# Altium footprint library Custom.PcbLib: 446 footprints (part 2 of 28)
Each footprint in its own frame and in the unit in brackets; x right, y up, seen from the top. Pads: shape width x height; smd on the part's side, far side on the other; paste and mask are expansions set on the pad; w line width, h text height; cw(c..) or ccw(c..) is an arc to the next point about the centre after c.
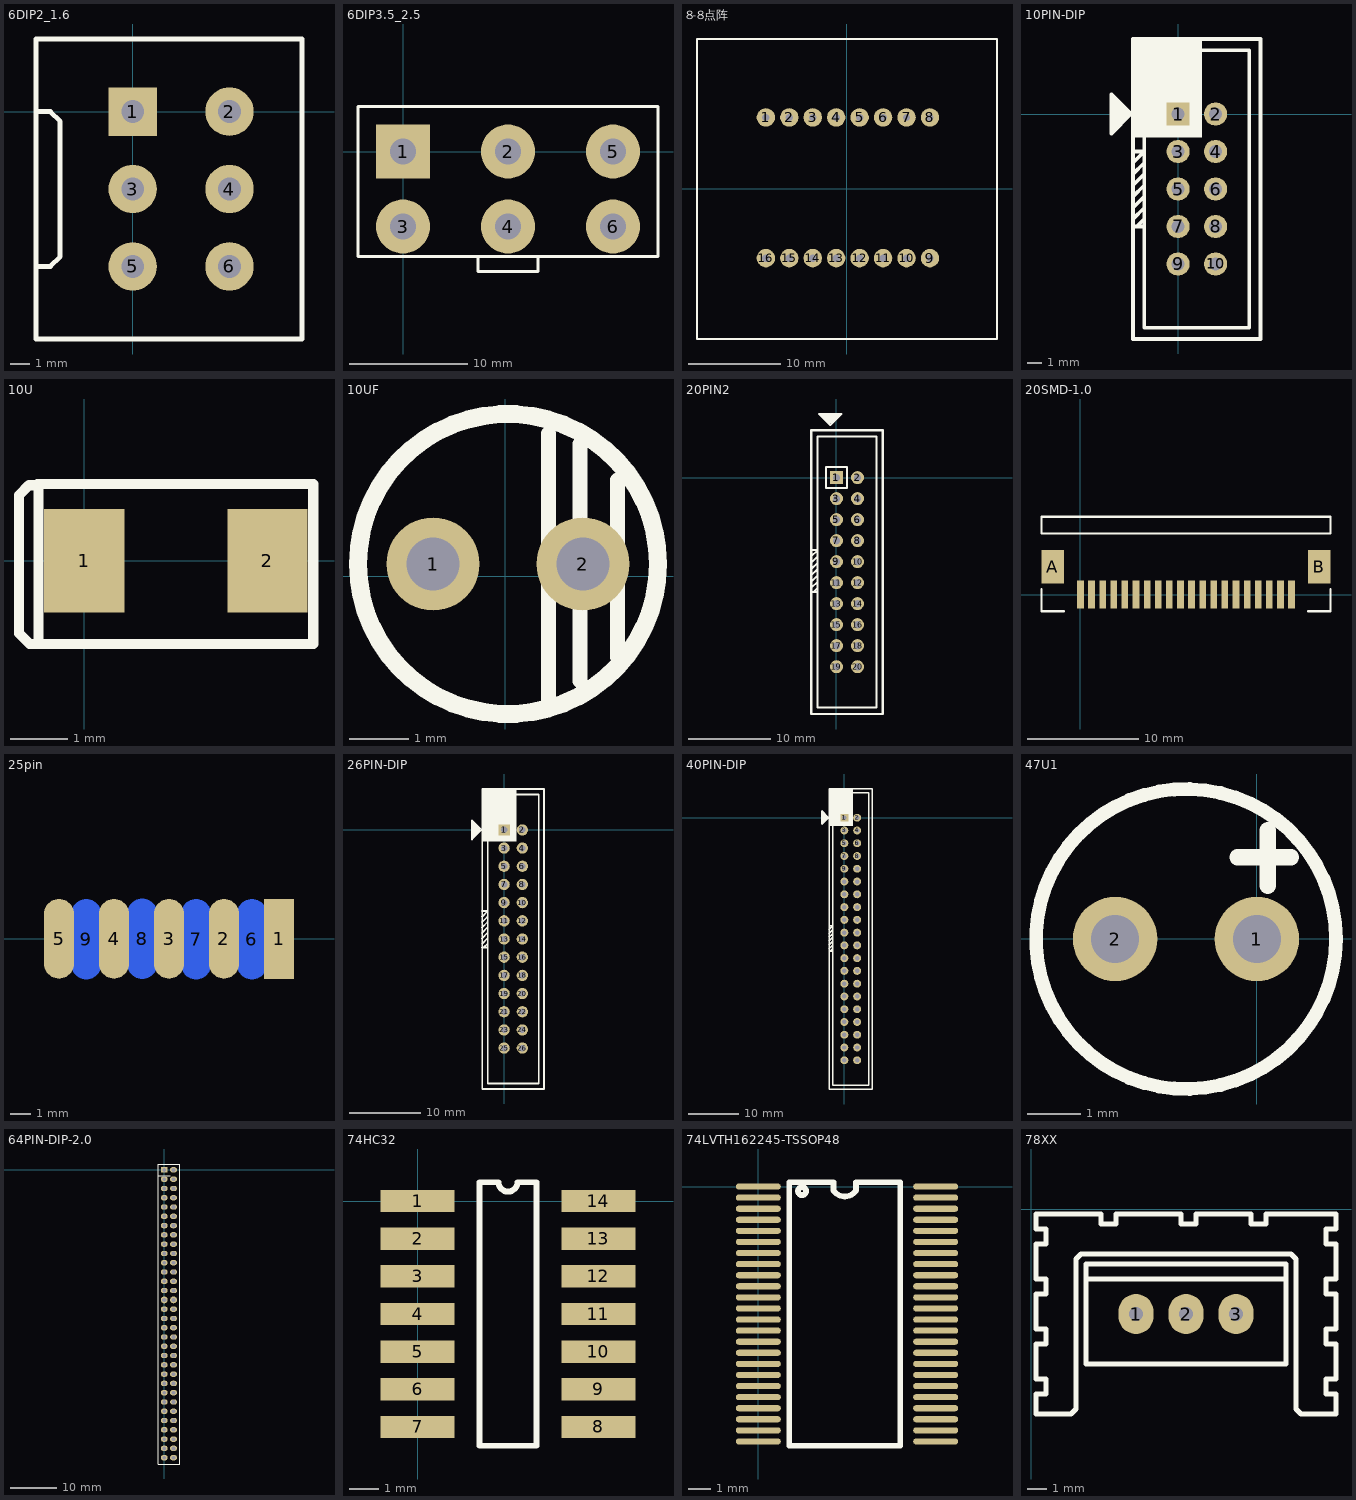
[diagram p1: the footprints below, top view; thin cyan lines are the x and y axes]

## 6DIP2_1.6 [mil]
pads (6):
  rect 100x100 hole 47: 1(0,0)
  round 100 hole 47: 2(200,0) 3(0,-160) 4(200,-160) 5(0,-320) 6(200,-320)
Top Overlay:
  lines w10: -200,-320 -170,-320 -150,-300 -150,-20 -170,0 -200,0 ; -200,-470 -200,150 -150,150 350,150 350,-470 -150,-470 -200,-470

## 6DIP3.5_2.5 [mil]
pads (6):
  rect 180x180 hole 88: 1(0,0)
  round 180 hole 88: 2(350,0) 3(0,-250) 4(350,-250) 5(700,0) 6(700,-250)
Top Overlay:
  lines w10: 250,-350 250,-400 450,-400 450,-350 ; 350,150 -150,150 ; -150,150 -150,-350 850,-350 850,150 -150,150

## 8-8点阵 [mm]
pads (16):
  round 2 hole 0.8: 1(-8.78,7.74) 2(-6.24,7.74) 3(-3.7,7.74) 4(-1.16,7.74) 5(1.38,7.74) 6(3.92,7.74) 7(6.46,7.74) 8(9,7.74) 9(9,-7.5) 10(6.46,-7.5) 11(3.92,-7.5) 12(1.38,-7.5) 13(-1.16,-7.5) 14(-3.7,-7.5) 15(-6.24,-7.5) 16(-8.78,-7.5)
Top Overlay:
  lines w0.254: -16.24,-16.26 -16.24,16.24 16.26,16.24 16.26,-16.26 -16.24,-16.26

## 10PIN-DIP [mil]
pads (10):
  rect 62x62 hole 35: 1(0,0)
  round 62 hole 35: 2(100,0) 3(0,-100) 4(100,-100) 5(0,-200) 6(100,-200) 7(0,-300) 8(100,-300) 9(0,-400) 10(100,-400)
Top Overlay:
  region: -120,-62.2 63.78,-62.2 63.78,200 -120,200
  lines w10: -177.56,-19.68 -177.56,-51.97 -177.17,-52.36 -177.17,-51.97 -124.57,0.63 -124.57,0.79 -124.57,-0.39 -124.57,-0.24 -177.56,52.76 -177.56,-35.04 -170.2,-38.46 -170.2,45.4 ; -161.49,36.68 -161.49,-32.21 -161.42,-32.28 ; -153.15,-24.8 -152.66,-24.31 -152.66,27.86 ; -144.06,-12.17 -144.06,19.26 ; -136.72,-5.23 -136.72,11.92 ; -120,-280 -90,-250 ; -120,-250 -90,-220 ; -120,-220 -90,-190 ; -120,-190 -90,-160 ; -120,-160 -90,-130 ; -120,-130 -90,-100 -120,-100 ; -90,-300 -120,-300 -110,-300 -90,-280 ; -120,-600 -120,-500 -120,200 220,200 220,-500 220,-600 -120,-600 ; -90,-570 -90,170 190,170 190,-570 -90,-570 ; -60,-50 50,-50 50,60 -60,60 -60,-50

## 10U [mm]
pads (2):
  rect 1.4x1.8 smd: 1(0,0) 2(3.2,0)
Top Overlay:
  lines w0.178: -0.826,-1.454 -0.953,-1.454 -1.141,-1.266 -1.141,1.147 -0.967,1.32 -0.8,1.32 ; -0.826,-1.454 -0.8,-1.428 -0.8,-1 -0.8,1 -0.8,1.32 ; -0.826,-1.454 4,-1.454 4,-1 4,1 4,1.34 -0.82,1.34 -0.8,1.32

## 10UF [mil]
pads (2):
  round 62 hole 35.43: 1(-48,8) 2(52,8)
Top Overlay:
  circle w12: c2,8 r100
  lines w10: 29,-85 29,95 ; 50,-70 50,88 ; 75,-54 75,64

## 20PIN2 [mil]
pads (20):
  rect 62x62 hole 35: 1(0,0)
  round 62 hole 35: 2(100,0) 3(0,-100) 4(100,-100) 5(0,-200) 6(100,-200) 7(0,-300) 8(100,-300) 9(0,-400) 10(100,-400) 11(0,-500) 12(100,-500) 13(0,-600) 14(100,-600) 15(0,-700) 16(100,-700) 17(0,-800) 18(100,-800) 19(0,-900) 20(100,-900)
Top Overlay:
  lines w10: -120,-525 -90,-495 ; -120,-495 -90,-465 ; -120,-465 -90,-435 ; -120,-435 -90,-405 ; -120,-405 -90,-375 ; -120,-375 -90,-345 -120,-345 ; -90,-545 -120,-545 -110,-545 -90,-525 ; -62.28,286.42 -62.21,286.49 6.68,286.49 ; -54.8,278.15 -54.31,277.66 -2.14,277.66 ; -49.68,302.56 -81.97,302.56 -82.36,302.17 -81.97,302.17 -29.37,249.57 -29.21,249.57 -30.39,249.57 -30.24,249.57 22.76,302.56 -65.04,302.56 -68.46,295.2 15.4,295.2 ; -42.17,269.06 -10.74,269.06 ; -35.23,261.72 -18.08,261.72 ; -120,-1125 220,-1125 220,225 0,225 -120,225 -120,-1125 ; -90,-1095 190,-1095 190,195 -90,195 -90,-1095 ; -50,-50 -50,50 50,50 50,-50 -50,-50

## 20SMD-1.0 [mm]
pads (22):
  rect 0.6x2.5 smd: 1(0.022,0.009) 2(1.022,0.009) 3(2.022,0.009) 4(3.022,0.009) 5(4.022,0.009) 6(5.022,0.009) 7(6.022,0.009) 8(7.022,0.009) 9(8.022,0.009) 10(9.022,0.009) 11(10.022,0.009) 12(11.022,0.009) 13(12.022,0.009) 14(13.022,0.009) 15(14.022,0.009) 16(15.022,0.009) 17(16.022,0.009) 18(17.022,0.009) 19(18.022,0.009) 20(19.022,0.009)
  rect 2x3 smd: A(-2.478,2.509) B(21.522,2.509)
Top Overlay:
  lines w0.2: -3.478,0.509 -3.478,-1.491 -1.478,-1.491 ; 20.522,-1.491 22.522,-1.491 22.522,0.509 ; -3.478,5.509 -3.478,7.009 22.522,7.009 22.522,5.509 -3.478,5.509

## 25pin [mm]
height 12.93
pads (9):
  rect 1.5x4 smd: 1(33,0)
  oval 1.5x4 smd: 2(30.25,0) 3(27.5,0) 4(24.75,0) 5(22,0)
  oval 1.5x4 smd far side: 6(31.648,-0.025) 7(28.854,-0.025) 8(26.162,0) 9(23.368,-0.025)

## 26PIN-DIP [mil]
pads (26):
  rect 62x62 hole 35: 1(0,0)
  round 62 hole 35: 2(100,0) 3(0,-100) 4(100,-100) 5(0,-200) 6(100,-200) 7(0,-300) 8(100,-300) 9(0,-400) 10(100,-400) 11(0,-500) 12(100,-500) 13(0,-600) 14(100,-600) 15(0,-700) 16(100,-700) 17(0,-800) 18(100,-800) 19(0,-900) 20(100,-900) 21(0,-1000) 22(100,-1000) 23(0,-1100) 24(100,-1100) 25(0,-1200) 26(100,-1200)
Top Overlay:
  region: -120,-63.39 66.14,-63.39 66.14,225 -120,225
  lines w10: -177.56,-19.68 -177.56,-51.97 -177.17,-52.36 -177.17,-51.97 -124.57,0.63 -124.57,0.79 -124.57,-0.39 -124.57,-0.24 -177.56,52.76 -177.56,-35.04 -170.2,-38.46 -170.2,45.4 ; -161.49,36.68 -161.49,-32.21 -161.42,-32.28 ; -153.15,-24.8 -152.66,-24.31 -152.66,27.86 ; -144.06,-12.17 -144.06,19.26 ; -136.72,-5.23 -136.72,11.92 ; -121.45,-626.45 -91.45,-596.45 ; -121.45,-596.45 -91.45,-566.45 ; -121.45,-566.45 -91.45,-536.45 ; -121.45,-536.45 -91.45,-506.45 ; -121.45,-506.45 -91.45,-476.45 ; -121.45,-476.45 -91.45,-446.45 -121.45,-446.45 ; -91.45,-646.45 -121.45,-646.45 -111.45,-646.45 -91.45,-626.45 ; -120,-1425 220,-1425 220,-1225 220,-1125 220,225 0,225 -120,225 -120,-1125 -120,-1225 -120,-1425 ; -90,-1395 190,-1395 190,-1195 190,-1095 190,195 -90,195 -90,-1095 -90,-1195 -90,-1395 ; -50,-50 50,-50 50,50 -50,50 -50,-50

## 40PIN-DIP [mil]
pads (40):
  rect 62x62 hole 35: 1(0,0)
  round 62 hole 35: 2(100,0) 3(0,-100) 4(100,-100) 5(0,-200) 6(100,-200) 7(0,-300) 8(100,-300) 9(0,-400) 10(100,-400) 11(0,-500) 12(100,-500) 13(0,-600) 14(100,-600) 15(0,-700) 16(100,-700) 17(0,-800) 18(100,-800) 19(0,-900) 20(100,-900) 21(0,-1000) 22(100,-1000) 23(0,-1100) 24(100,-1100) 25(0,-1200) 26(100,-1200) 27(0,-1300) 28(100,-1300) 29(0,-1400) 30(100,-1400) 31(0,-1500) 32(100,-1500) 33(0,-1600) 34(100,-1600) 35(0,-1700) 36(100,-1700) 37(0,-1800) 38(100,-1800) 39(0,-1900) 40(100,-1900)
Top Overlay:
  region: -120,-63.39 66.14,-63.39 66.14,225 -120,225
  lines w10: -178.35,-19.68 -178.35,-51.97 -177.95,-52.36 -177.95,-51.97 -125.35,0.63 -125.35,0.79 -125.35,-0.39 -125.35,-0.24 -178.35,52.76 -178.35,-35.04 -170.99,-38.46 -170.99,45.4 ; -162.27,36.68 -162.27,-32.21 -162.2,-32.28 ; -153.94,-24.8 -153.45,-24.31 -153.45,27.86 ; -144.85,-12.17 -144.85,19.26 ; -137.51,-5.23 -137.51,11.92 ; -120.33,-1027 -90.33,-997 ; -120.33,-997 -90.33,-967 ; -120.33,-967 -90.33,-937 ; -120.33,-937 -90.33,-907 ; -120.33,-907 -90.33,-877 ; -120.33,-877 -90.33,-847 -120.33,-847 ; -90.33,-1047 -120.33,-1047 -110.33,-1047 -90.33,-1027 ; -120,-2125 -120,-2120 -120,-1125 -120,225 0,225 220,225 220,-1125 220,-2125 -120,-2125 ; -90,-2095 -90,-1095 -90,195 190,195 190,-1095 190,-2095 -90,-2095 ; -50,-50 -50,50 50,50 50,-50 -50,-50

## 47U1 [mil]
pads (2):
  round 62 hole 35.43: 1(0.15,-0.25) 2(-104.1,-0.25)
Top Overlay:
  circle w10: c-51.98,-0.25 r110.24
  lines w12: -14.18,59.75 25.19,59.75 ; 8.02,38.8 8.02,79.75

## 64PIN-DIP-2.0 [mm]
pads (64):
  rect 1.5x1.15 hole 0.8: 1(0,0)
  oval 1.5x1.15 hole 0.8: 2(2,0) 3(0,-2) 4(2,-2) 5(0,-4) 6(2,-4) 7(0,-6) 8(2,-6) 9(0,-8) 10(2,-8) 11(0,-10) 12(2,-10) 13(0,-12) 14(2,-12) 15(0,-14) 16(2,-14) 17(0,-16) 18(2,-16) 19(0,-18) 20(2,-18) 21(0,-20) 22(2,-20) 23(0,-22) 24(2,-22) 25(0,-24) 26(2,-24) 27(0,-26) 28(2,-26) 31(0,-30) 32(2,-30) 33(0,-32) 34(2,-32) 35(0,-34) 36(2,-34) 37(0,-36) 38(2,-36) 39(0,-38) 40(2,-38) 41(0,-40) 42(2,-40) 43(0,-42) 44(2,-42) 45(0,-44) 46(2,-44) 47(0,-46) 48(2,-46) 49(0,-48) 50(2,-48) 51(0,-50) 52(2,-50) 53(0,-52) 54(2,-52) 55(0,-54) 56(2,-54) 57(0,-56) 58(2,-56) 59(0,-58) 60(2,-58) 61(0,-60) 62(2,-60) 63(0,-62) 64(2,-62)
  round 1.5 hole 0.889: 29(0,-28) 30(2,-28)
Top Overlay:
  lines w0.254: -1.27,-1.27 1.27,-1.27 ; -1.27,-63.362 3.319,-63.362 3.319,1.27 -1.27,1.27 -1.27,-63.362

## 74HC32 [mm]
pads (14):
  rect 2.5x0.75 smd: 1(0,0) 2(0,-1.27) 3(0,-2.54) 4(0,-3.81) 5(0,-5.08) 6(0,-6.35) 7(0,-7.62) 8(6.1,-7.62) 9(6.1,-6.35) 10(6.1,-5.08) 11(6.1,-3.81) 12(6.1,-2.54) 13(6.1,-1.27) 14(6.1,0)
Top Overlay:
  lines w0.2: 2.085,-8.255 4.015,-8.255 4.015,0.635 3.367,0.635 cw(c3.05,0.635) 2.732,0.635 2.085,0.635 2.085,-8.255

## 74LVTH162245-TSSOP48 [mil]
pads (48):
  oval 80x11 smd: 1(0,0) 2(0,-19.68) 3(0,-39.37) 4(0,-59.06) 5(0,-78.74) 6(0,-98.43) 7(0,-118.11) 8(0,-137.8) 9(0,-157.48) 10(0,-177.17) 11(0,-196.85) 12(0,-216.54) 13(0,-236.22) 14(0,-255.91) 15(0,-275.59) 16(0,-295.28) 17(0,-314.96) 18(0,-334.65) 19(0,-354.33) 20(0,-374.02) 21(0,-393.7) 22(0,-413.39) 23(0,-433.07) 24(0,-452.76) 25(314.96,-452.76) 26(314.96,-433.07) 27(314.96,-413.39) 28(314.96,-393.7) 29(314.96,-374.02) 30(314.96,-354.33) 31(314.96,-334.65) 32(314.96,-314.96) 33(314.96,-295.28) 34(314.96,-275.59) 35(314.96,-255.91) 36(314.96,-236.22) 37(314.96,-216.54) 38(314.96,-196.85) 39(314.96,-177.17) 40(314.96,-157.48) 41(314.96,-137.8) 42(314.96,-118.11) 43(314.96,-98.43) 44(314.96,-78.74) 45(314.96,-59.06) 46(314.96,-39.37) 47(314.96,-19.68) 48(314.96,0)
Top Overlay:
  circle w10: c77.61,-8.08 r7.18
  lines w10: 55.12,-460.63 55.12,7.91 133.54,7.91 133.54,-7.09 ccw(c153.54,6.66) 173.54,-7.09 173.54,7.91 251.97,7.91 251.97,-460.63 55.12,-460.63

## 78XX [mil]
pads (3):
  oval 70x80 hole 28: 1(210,-210) 2(310,-210) 3(410,-210)
Top Overlay:
  lines w10: 110,-140 510,-140 ; 10,-410 10,-370 30,-370 30,-340 10,-340 10,-270 30,-270 30,-240 10,-240 10,-170 30,-170 30,-140 10,-140 10,-70 30,-70 30,-40 10,-40 10,-10 140,-10 140,-30 170,-30 170,-10 300,-10 300,-30 330,-30 330,-10 440,-10 440,-30 470,-30 470,-10 610,-10 610,-40 590,-40 590,-70 610,-70 610,-140 590,-140 590,-170 610,-170 610,-240 590,-240 590,-270 610,-270 610,-340 590,-340 590,-370 610,-370 610,-410 560,-410 540,-410 530,-400 530,-100 520,-90 100,-90 90,-100 90,-400 80,-410 10,-410 ; 110,-310 110,-110 510,-110 510,-310 110,-310